# EAGLE library part 74HC4051PW,112 (library NXP_By_element14_Batch_1)
8-channel analog multiplexer/demultiplexer
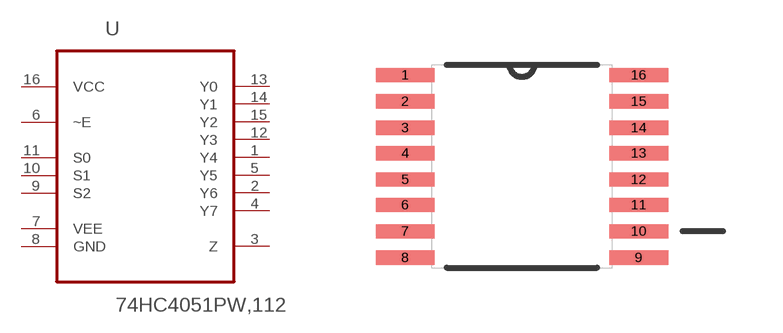
[diagram p105: symbol with the pads of SOP65P640X110-16N; footprint SOP65P640X110-16N]

Designator prefix U

## 74HC4051PW,112 (MPN: 74HC4051PW,112; OC_FARNELL: 1871627; OC_NEWARK: 71R2509; P1I: o; PACKAGE: SOP-16; SUPPLIER: NXP)  [SOP65P640X110-16N]
1  Y4
2  Y6
3  Z
4  Y7
5  Y5
6  ~E  in
7  VEE  pwr
8  GND  pas
9  S2  in
10  S1  in
11  S0  in
12  Y3
13  Y0
14  Y1
15  Y2
16  VCC  pwr

## Footprint SOP65P640X110-16N (pad centres in mm)
smd 1.473 x 0.356: 1 -2.921,2.286; 2 -2.921,1.626; 3 -2.921,0.965; 4 -2.921,0.33; 5 -2.921,-0.33; 6 -2.921,-0.965; 7 -2.921,-1.626; 8 -2.921,-2.286; 9 2.921,-2.286; 10 2.921,-1.626; 11 2.921,-0.965; 12 2.921,-0.33; 13 2.921,0.33; 14 2.921,0.965; 15 2.921,1.626; 16 2.921,2.286